# Altium footprint library exercise2.PcbLib: 1 footprints
Each footprint in its own frame and in the unit in brackets; x right, y up, seen from the top. Pads: shape width x height; smd on the part's side, far side on the other; paste and mask are expansions set on the pad; w line width, h text height; cw(c..) or ccw(c..) is an arc to the next point about the centre after c.
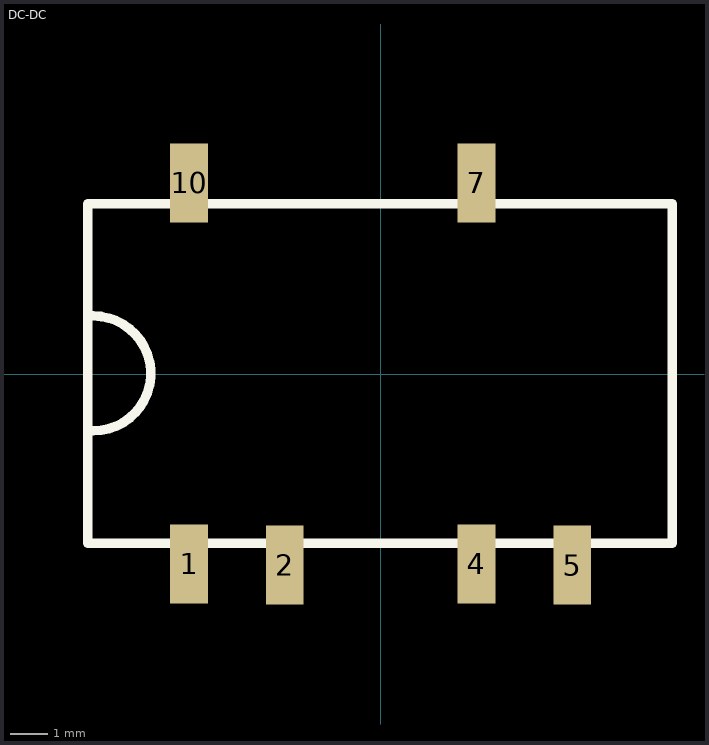
[diagram p0: the footprint, top view; thin cyan lines are the x and y axes]

## DC-DC [mm]
pads (6):
  rect 1x2.1 smd: 1(-5.08,-5.035) 2(-2.54,-5.065) 4(2.54,-5.035) 5(5.08,-5.065) 7(2.54,5.065) 10(-5.08,5.065)
Top Overlay:
  lines w0.254: -7.62,-1.509 ccw(c-7.62,0.015) -7.62,1.539 ; -7.77,-4.485 7.73,-4.485 7.73,4.515 -7.77,4.515 -7.77,-4.485